# EAGLE library part T8Q144C4 (library ICs)
Trion® Field Programmable Gate Array (FPGA) IC 97 125952 7384 144-LQFP
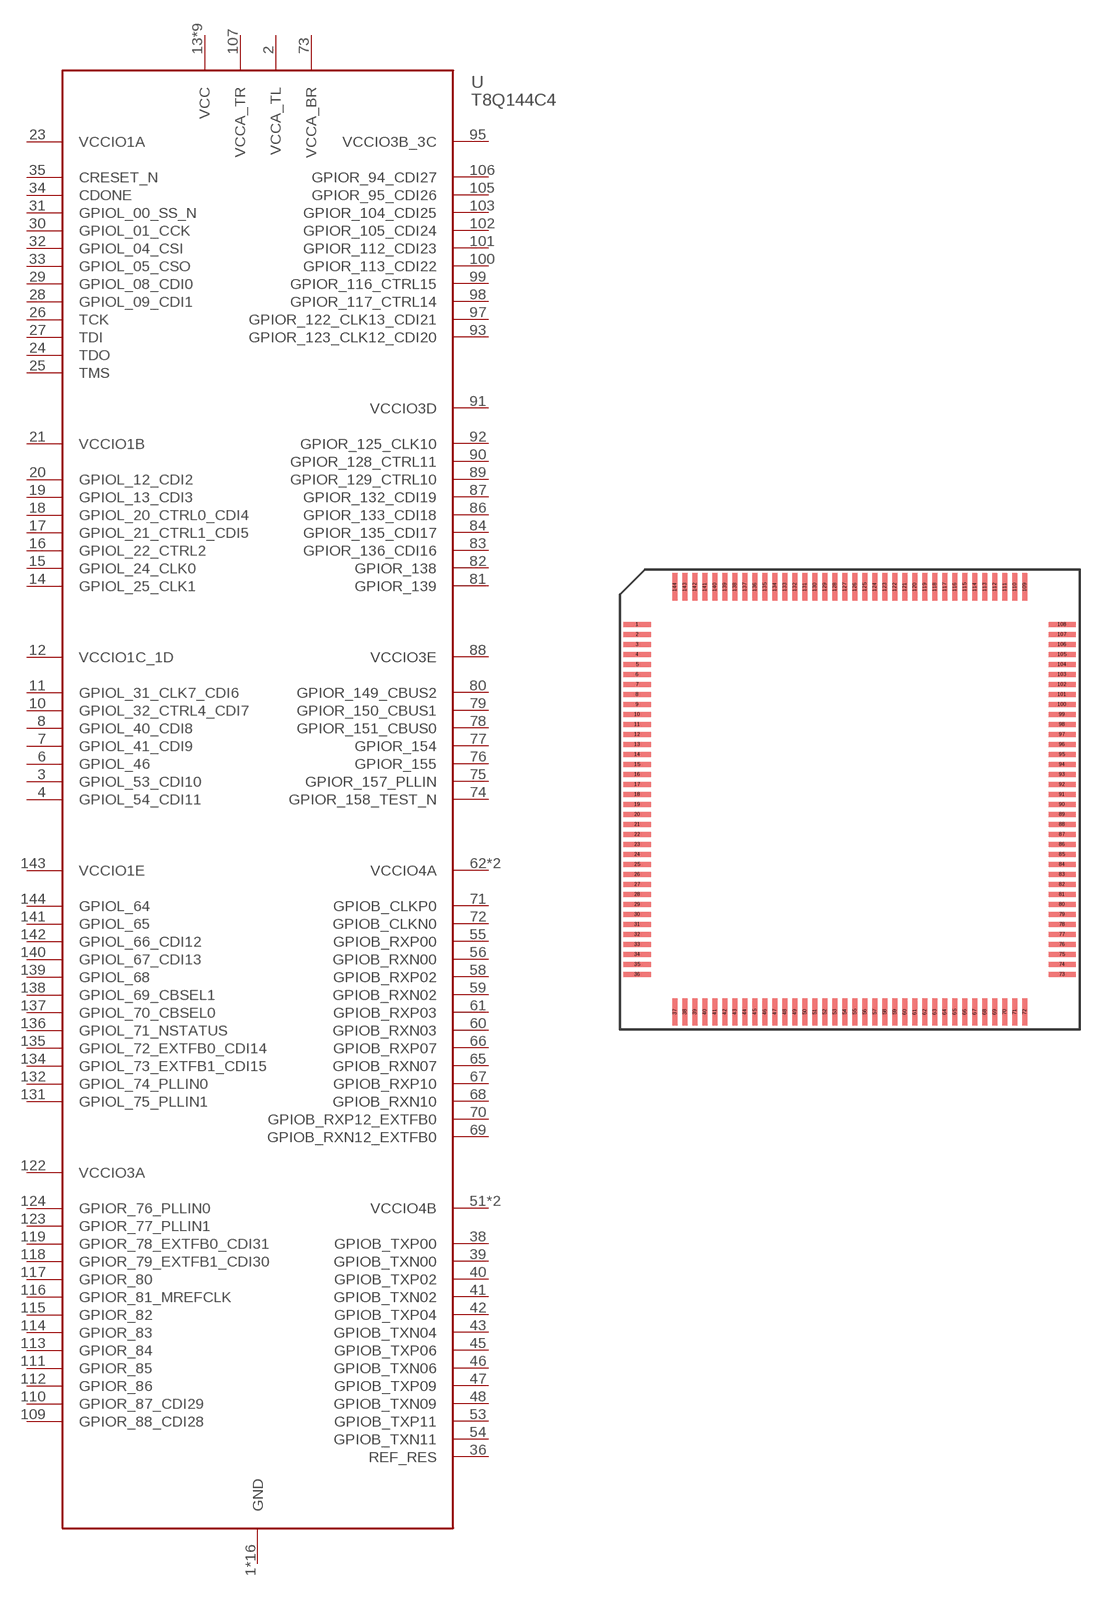
[diagram p315: symbol with the pads of QFP144; footprint QFP144]

Designator prefix U

## T8Q144C4 (DIGIKEY: 2134-T8Q144C4-ND; HEIGHT: 2; PRICE_PER: 5.16; VALUE: T8Q144C4)  [QFP144]
1  GND
2  VCCA_TL
3  GPIOL_53_CDI10
4  GPIOL_54_CDI11
5  GND
6  GPIOL_46
7  GPIOL_41_CDI9
8  GPIOL_40_CDI8
9  GND
10  GPIOL_32_CTRL4_CDI7
11  GPIOL_31_CLK7_CDI6
12  VCCIO1C_1D
13  VCC
14  GPIOL_25_CLK1
15  GPIOL_24_CLK0
16  GPIOL_22_CTRL2
17  GPIOL_21_CTRL1_CDI5
18  GPIOL_20_CTRL0_CDI4
19  GPIOL_13_CDI3
20  GPIOL_12_CDI2
21  VCCIO1B
22  VCC
23  VCCIO1A
24  TDO
25  TMS
26  TCK
27  TDI
28  GPIOL_09_CDI1
29  GPIOL_08_CDI0
30  GPIOL_01_CCK
31  GPIOL_00_SS_N
32  GPIOL_04_CSI
33  GPIOL_05_CSO
34  CDONE
35  CRESET_N
36  REF_RES
37  GND
38  GPIOB_TXP00
39  GPIOB_TXN00
40  GPIOB_TXP02
41  GPIOB_TXN02
42  GPIOB_TXP04
43  GPIOB_TXN04
44  GND
45  GPIOB_TXP06
46  GPIOB_TXN06
47  GPIOB_TXP09
48  GPIOB_TXN09
49  VCC
50  GND
51  VCCIO4B
52  VCCIO4B
53  GPIOB_TXP11
54  GPIOB_TXN11
55  GPIOB_RXP00
56  GPIOB_RXN00
57  VCC
58  GPIOB_RXP02
59  GPIOB_RXN02
60  GPIOB_RXN03
61  GPIOB_RXP03
62  VCCIO4A
63  VCCIO4A
64  GND
65  GPIOB_RXN07
66  GPIOB_RXP07
67  GPIOB_RXP10
68  GPIOB_RXN10
69  GPIOB_RXN12_EXTFB0
70  GPIOB_RXP12_EXTFB0
71  GPIOB_CLKP0
72  GPIOB_CLKN0
73  VCCA_BR
74  GPIOR_158_TEST_N
75  GPIOR_157_PLLIN
76  GPIOR_155
77  GPIOR_154
78  GPIOR_151_CBUS0
79  GPIOR_150_CBUS1
80  GPIOR_149_CBUS2
81  GPIOR_139
82  GPIOR_138
83  GPIOR_136_CDI16
84  GPIOR_135_CDI17
85  VCC
86  GPIOR_133_CDI18
87  GPIOR_132_CDI19
88  VCCIO3E
89  GPIOR_129_CTRL10
90  GPIOR_128_CTRL11
91  VCCIO3D
92  GPIOR_125_CLK10
93  GPIOR_123_CLK12_CDI20
94  GND
95  VCCIO3B_3C
96  VCC
97  GPIOR_122_CLK13_CDI21
98  GPIOR_117_CTRL14
99  GPIOR_116_CTRL15
100  GPIOR_113_CDI22
101  GPIOR_112_CDI23
102  GPIOR_105_CDI24
103  GPIOR_104_CDI25
104  GND
105  GPIOR_95_CDI26
106  GPIOR_94_CDI27
107  VCCA_TR
108  GND
109  GPIOR_88_CDI28
110  GPIOR_87_CDI29
111  GPIOR_85
112  GPIOR_86
113  GPIOR_84
114  GPIOR_83
115  GPIOR_82
116  GPIOR_81_MREFCLK
117  GPIOR_80
118  GPIOR_79_EXTFB1_CDI30
119  GPIOR_78_EXTFB0_CDI31
120  GND
121  GND
122  VCCIO3A
123  GPIOR_77_PLLIN1
124  GPIOR_76_PLLIN0
125  VCC
126  GND
127  GND
128  VCC
129  GND
130  VCC
131  GPIOL_75_PLLIN1
132  GPIOL_74_PLLIN0
133  GND
134  GPIOL_73_EXTFB1_CDI15
135  GPIOL_72_EXTFB0_CDI14
136  GPIOL_71_NSTATUS
137  GPIOL_70_CBSEL0
138  GPIOL_69_CBSEL1
139  GPIOL_68
140  GPIOL_67_CDI13
141  GPIOL_65
142  GPIOL_66_CDI12
143  VCCIO1E
144  GPIOL_64

## Footprint QFP144 (pad centres in mm)
smd 1.35 x 0.25: 1 -10.625,8.75; 2 -10.625,8.25; 3 -10.625,7.75; 4 -10.625,7.25; 5 -10.625,6.75; 6 -10.625,6.25; 7 -10.625,5.75; 8 -10.625,5.25; 9 -10.625,4.75; 10 -10.625,4.25; 11 -10.625,3.75; 12 -10.625,3.25; 13 -10.625,2.75; 14 -10.625,2.25; 15 -10.625,1.75; 16 -10.625,1.25; 17 -10.625,0.75; 18 -10.625,0.25; 19 -10.625,-0.25; 20 -10.625,-0.75; 21 -10.625,-1.25; 22 -10.625,-1.75; 23 -10.625,-2.25; 24 -10.625,-2.75; 25 -10.625,-3.25; 26 -10.625,-3.75; 27 -10.625,-4.25; 28 -10.625,-4.75; 29 -10.625,-5.25; 30 -10.625,-5.75; 31 -10.625,-6.25; 32 -10.625,-6.75; 33 -10.625,-7.25; 34 -10.625,-7.75; 35 -10.625,-8.25; 36 -10.625,-8.75; 73 10.625,-8.75; 74 10.625,-8.25; 75 10.625,-7.75; 76 10.625,-7.25; 77 10.625,-6.75; 78 10.625,-6.25; 79 10.625,-5.75; 80 10.625,-5.25; 81 10.625,-4.75; 82 10.625,-4.25; 83 10.625,-3.75; 84 10.625,-3.25; 85 10.625,-2.75; 86 10.625,-2.25; 87 10.625,-1.75; 88 10.625,-1.25; 89 10.625,-0.75; 90 10.625,-0.25; 91 10.625,0.25; 92 10.625,0.75; 93 10.625,1.25; 94 10.625,1.75; 95 10.625,2.25; 96 10.625,2.75; 97 10.625,3.25; 98 10.625,3.75; 99 10.625,4.25; 100 10.625,4.75; 101 10.625,5.25; 102 10.625,5.75; 103 10.625,6.25; 104 10.625,6.75; 105 10.625,7.25; 106 10.625,7.75; 107 10.625,8.25; 108 10.625,8.75
smd 0.25 x 1.35: 37 -8.75,-10.625; 38 -8.25,-10.625; 39 -7.75,-10.625; 40 -7.25,-10.625; 41 -6.75,-10.625; 42 -6.25,-10.625; 43 -5.75,-10.625; 44 -5.25,-10.625; 45 -4.75,-10.625; 46 -4.25,-10.625; 47 -3.75,-10.625; 48 -3.25,-10.625; 49 -2.75,-10.625; 50 -2.25,-10.625; 51 -1.75,-10.625; 52 -1.25,-10.625; 53 -0.75,-10.625; 54 -0.25,-10.625; 55 0.25,-10.625; 56 0.75,-10.625; 57 1.25,-10.625; 58 1.75,-10.625; 59 2.25,-10.625; 60 2.75,-10.625; 61 3.25,-10.625; 62 3.75,-10.625; 63 4.25,-10.625; 64 4.75,-10.625; 65 5.25,-10.625; 66 5.75,-10.625; 67 6.25,-10.625; 68 6.75,-10.625; 69 7.25,-10.625; 70 7.75,-10.625; 71 8.25,-10.625; 72 8.75,-10.625; 109 8.75,10.625; 110 8.25,10.625; 111 7.75,10.625; 112 7.25,10.625; 113 6.75,10.625; 114 6.25,10.625; 115 5.75,10.625; 116 5.25,10.625; 117 4.75,10.625; 118 4.25,10.625; 119 3.75,10.625; 120 3.25,10.625; 121 2.75,10.625; 122 2.25,10.625; 123 1.75,10.625; 124 1.25,10.625; 125 0.75,10.625; 126 0.25,10.625; 127 -0.25,10.625; 128 -0.75,10.625; 129 -1.25,10.625; 130 -1.75,10.625; 131 -2.25,10.625; 132 -2.75,10.625; 133 -3.25,10.625; 134 -3.75,10.625; 135 -4.25,10.625; 136 -4.75,10.625; 137 -5.25,10.625; 138 -5.75,10.625; 139 -6.25,10.625; 140 -6.75,10.625; 141 -7.25,10.625; 142 -7.75,10.625; 143 -8.25,10.625; 144 -8.75,10.625